# Altium schematic symbol library EMC2301-1-ACZL-TR.SchLib: 1 symbol
Pins are listed as number, name and electrical type; pins without a type are passive.

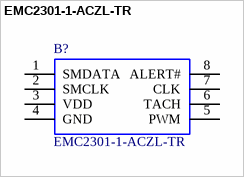
[diagram p0: symbol EMC2301-1-ACZL-TR]

## EMC2301-1-ACZL-TR
designator B?
RPM-Based PWM Fan Speed Controller MSOP8; Manufacturer_Name: Microchip; Geometry.Height: 1.1mm; Manufacturer_Part_Number: EMC2301-1-ACZL-TR; Mouser Part Number: 886-EMC2301-1-ACZLTR; Mouser Price/Stock: https://www.mouser.co.uk/ProductDetail/Microchip-Technology/EMC2301-1-ACZL-TR?qs=pA5MXup5wxFdFYiBpDRrfw%3D%3D; Arrow Part Number: EMC2301-1-ACZL-TR; Arrow Price/Stock: https://www.arrow.com/en/products/emc2301-1-aczl-tr/microchip-technology?region=nac; Datasheet Link: http://www.microchip.com/mymicrochip/filehandler.aspx?ddocname=en562400
footprint SOP65P490X110-8N
pins: 1 SMDATA, 2 SMCLK, 3 VDD, 4 GND, 5 PWM, 6 TACH, 7 CLK, 8 ALERT#